# Altium footprint library SODFL100X60X40L17X30N.PcbLib: 1 footprints
Each footprint in its own frame and in the unit in brackets; x right, y up, seen from the top. Pads: shape width x height; smd on the part's side, far side on the other; paste and mask are expansions set on the pad; w line width, h text height; cw(c..) or ccw(c..) is an arc to the next point about the centre after c.
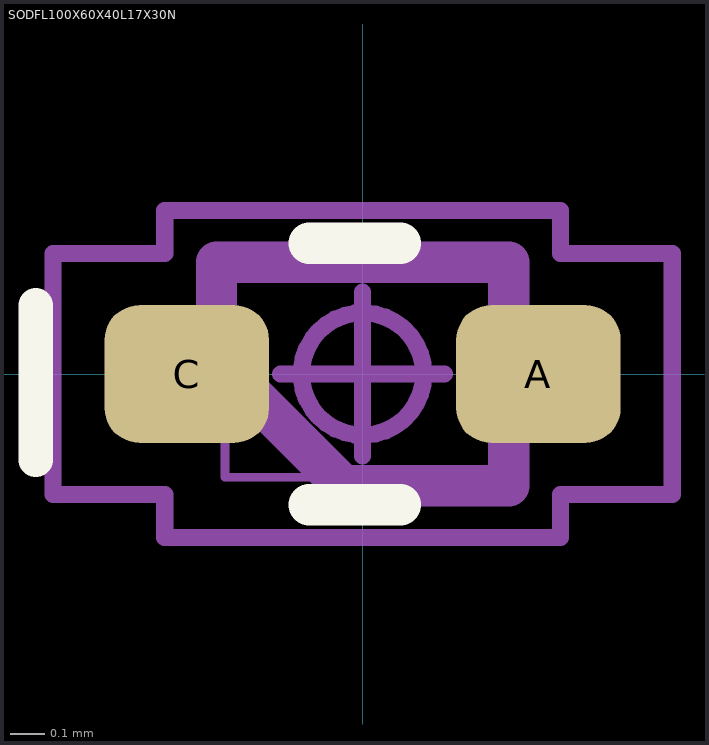
[diagram p0: the footprint, top view; thin cyan lines are the x and y axes]

## SODFL100X60X40L17X30N [mm] "Diode, Small Outline Diode, Flat Lead (SODFL); 0.80 mm L X 0.60 mm W X 0.45 mm H Body"
height 0.45
pads (2):
  rrect50% 0.478x0.4 smd: A(0.511,0) C(-0.511,0)
Top Overlay:
  lines w0.1: -0.95,-0.25 -0.95,0.2
  lines w0.12: -0.155,-0.38 0.11,-0.38 ; -0.155,0.38 0.11,0.38
Mechanical 3:
  lines w0.12: -0.425,0.044 -0.425,0.325 0.425,0.325 0.425,-0.325 -0.056,-0.325 -0.425,0.044
Mechanical 5:
  lines w0.025: -0.5,-0.15 -0.5,0.15 -0.322,0.15 -0.322,-0.15 -0.5,-0.15 ; -0.4,-0.3 0.4,-0.3 0.4,0.3 -0.4,0.3 -0.4,-0.3 ; 0.322,-0.15 0.5,-0.15 0.5,0.15 0.322,0.15 0.322,-0.15
Mechanical 7:
  circle w0.05: c0,0 r0.178
  lines w0.05: -0.238,0 0.238,0 ; 0,-0.238 0,0.238 ; -0.9,-0.35 -0.575,-0.35 -0.575,-0.475 0.575,-0.475 0.575,-0.35 0.9,-0.35 0.9,0.35 0.575,0.35 0.575,0.475 -0.575,0.475 -0.575,0.35 -0.9,0.35 -0.9,-0.35
Mechanical 9:
  text "'.Designator'" at -5.563,-0.398 h1.02
3D body "SODFL100X60X40L17X30.STEP": height 0.45, standoff 0, extent -0.5,-0.3 0.5,0.3
3D body: height 0.45, standoff 0, extent -0.9,-0.475 0.9,0.475